# Altium footprint library EasyPay.PcbLib: 29 footprints (part 2 of 2)
Each footprint in its own frame and in the unit in brackets; x right, y up, seen from the top. Pads: shape width x height; smd on the part's side, far side on the other; paste and mask are expansions set on the pad; w line width, h text height; cw(c..) or ccw(c..) is an arc to the next point about the centre after c.
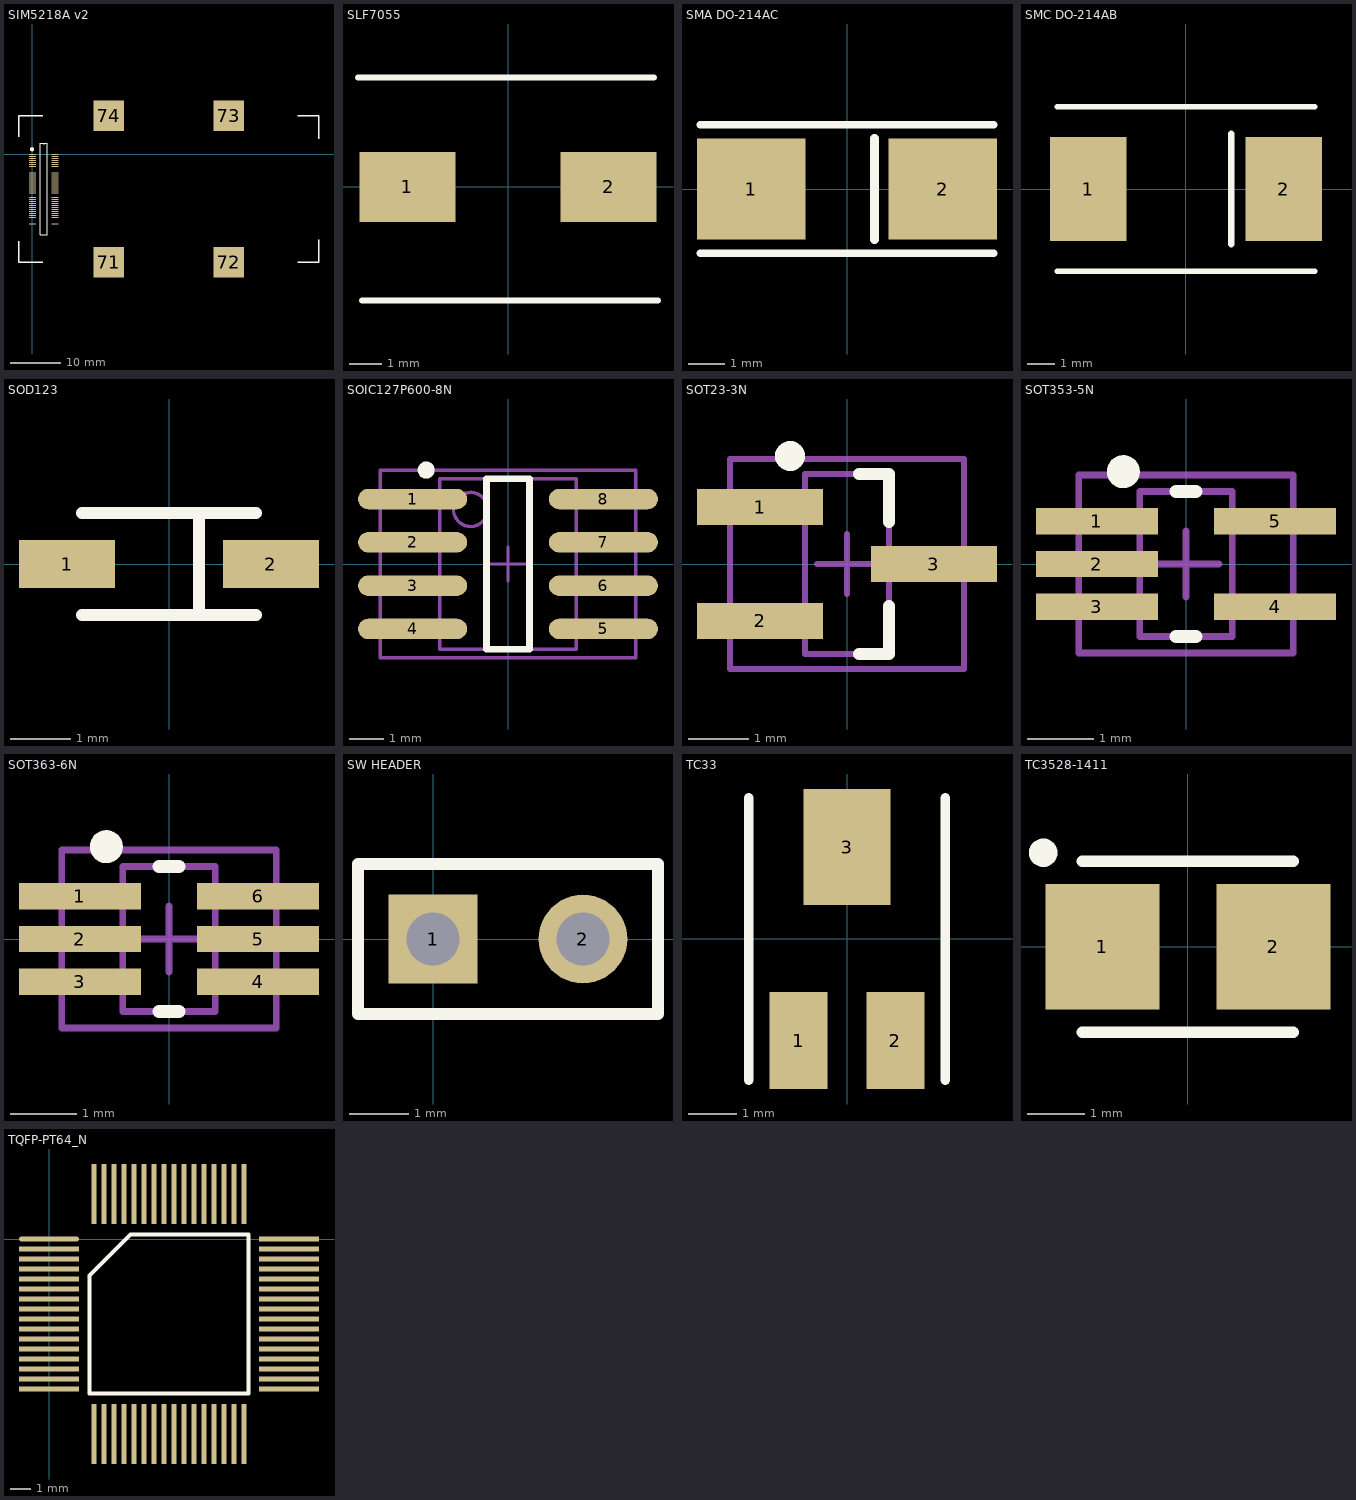
[diagram p1: the footprints below, top view; thin cyan lines are the x and y axes]

## SIM5218A v2 [mm]
pads (74):
  rect 1.45x0.17 smd: 1(0,0)
  oval 1.45x0.17 smd: 2(0,-0.4) 3(0,-0.8) 4(0,-1.2) 5(0,-1.6) 6(0,-2) 7(0,-2.4) 8(0,-2.8) 9(0,-3.2) 10(0,-3.6) 11(0,-4) 12(0,-4.4) 13(0,-4.8) 14(0,-5.2) 15(0,-5.6) 16(0,-6) 17(0,-6.4) 18(0,-6.8) 19(0,-7.2) 20(0,-7.6) 21(0,-8) 22(0,-8.4) 23(0,-8.8) 24(0,-9.2) 25(0,-9.6) 26(0,-10) 27(0,-10.4) 28(0,-10.8) 29(0,-11.2) 30(0,-11.6) 31(0,-12) 32(0,-12.4) 33(0,-12.8) 34(0,-13.2) 35(0,-13.6) 36(4.425,-13.6) 37(4.425,-13.2) 38(4.425,-12.8) 39(4.425,-12.4) 40(4.425,-12) 41(4.425,-11.6) 42(4.425,-11.2) 43(4.425,-10.8) 44(4.425,-10.4) 45(4.425,-10) 46(4.425,-9.6) 47(4.425,-9.2) 48(4.425,-8.8) 49(4.425,-8.4) 50(4.425,-8) 51(4.425,-7.6) 52(4.425,-7.2) 53(4.425,-6.8) 54(4.425,-6.4) 55(4.425,-6) 56(4.425,-5.6) 57(4.425,-5.2) 58(4.425,-4.8) 59(4.425,-4.4) 60(4.425,-4) 61(4.425,-3.6) 62(4.425,-3.2) 63(4.425,-2.8) 64(4.425,-2.4) 65(4.425,-2) 66(4.425,-1.6) 67(4.425,-1.2) 68(4.425,-0.8) 69(4.425,-0.4) 70(4.425,0)
  rect 6x6 smd: 71(14.942,-21.138) 72(38.492,-21.138) 73(38.492,7.589) 74(14.942,7.589)
Top Overlay:
  circle w0.4: c-0.073,1.016 r0.2
  lines w0.2: 1.524,-15.753 2.915,-15.753 2.915,2.154 2.312,2.154 cw(c2.213,2.154) 2.113,2.154 1.524,2.154 1.524,-15.753
  lines w0.254: -2.638,-17.049 -2.638,-21.138 2,-21.138 ; -2.638,3.5 -2.638,7.589 2,7.589 ; 52,-21.189 56.2,-21.189 56.2,-16.764 ; 52,7.62 56.2,7.62 56.2,3.068

## SLF7055 [mm]
pads (2):
  rect 3x2.2 smd: 1(-3.15,0) 2(3.15,0)
Top Overlay:
  lines w0.2: -4.699,3.429 4.572,3.429 ; -4.572,-3.556 4.699,-3.556

## SMA DO-214AC [mm]
pads (2):
  rect 3x2.79 smd: 1(-2.65,0) 2(2.65,0)
Top Overlay:
  lines w0.2: -4.064,-1.778 4.064,-1.778 ; -4.064,1.778 4.064,1.778
  lines w0.254: 0.762,-1.397 0.762,1.397

## SMC DO-214AB [mil]
pads (2):
  rect 110x150 smd: 1(-140.49,0) 2(140.49,0)
Top Overlay:
  lines w7.87: -185.04,-118.11 185.04,-118.11 ; -185.04,118.11 185.04,118.11
  lines w10: 65,-78.74 65,78.74

## SOD123 [mm] "SOD-123; 2 Leads; Body 2.7 x 1.6 mm, (LxW)"
height 1.35
pads (2):
  rect 1.6x0.8 smd: 1(-1.7,0) 2(1.7,0)
Top Overlay:
  lines w0.2: -1.45,-0.85 1.45,-0.85 ; -1.45,0.85 1.45,0.85 ; 0.5,-0.85 0.5,0.85

## SOIC127P600-8N [mm] "SOIC, 8-Leads, Body 4.9x3.9mm, Pitch 1.27mm, IPC Medium Density"
height 1.75
pads (8):
  oval 3.2x0.6 smd: 1(-2.8,1.905) 2(-2.8,0.635) 3(-2.8,-0.635) 4(-2.8,-1.905) 5(2.8,-1.905) 6(2.8,-0.635) 7(2.8,0.635) 8(2.8,1.905)
Top Overlay:
  circle w0.25: c-2.4,2.755 r0.125
  lines w0.2: -0.635,-2.5 -0.635,2.5 0.635,2.5 0.635,-2.5 -0.635,-2.5
Mechanical 13:
  circle w0.1: c-1.1,1.6 r0.5
  lines w0.1: -2,-2.5 -2,2.5 2,2.5 2,-2.5 -2,-2.5
Mechanical 15:
  lines w0.1: -0.5,0 0.5,0 ; 0,-0.5 0,0.5 ; -3.75,-2.75 -3.75,2.75 3.75,2.75 3.75,-2.75 -3.75,-2.75
3D body: height 1.75, standoff 0, extent -2,-2.5 2,2.5

## SOT23-3N [mm] "SOT23, 3-Leads, Body 2.9x1.3mm, Pitch 0.95mm, Lead Span 2.5mm, IPC Medium Density"
height 1.1
pads (3):
  rect 2.1x0.6 smd: 1(-1.45,0.95) 2(-1.45,-0.95) 3(1.45,0)
Top Overlay:
  circle w0.25: c-0.95,1.8 r0.125
  lines w0.2: 0.2,-1.5 0.7,-1.5 0.7,-0.7 ; 0.2,1.5 0.7,1.5 0.7,0.7
Mechanical 13:
  lines w0.1: -0.7,-1.5 0.7,-1.5 0.7,1.5 -0.7,1.5 -0.7,-1.5
Mechanical 15:
  lines w0.1: -0.5,0 0.5,0 ; 0,-0.5 0,0.5 ; -1.95,-1.75 1.95,-1.75 1.95,1.75 -1.95,1.75 -1.95,-1.75
3D body: height 1.1, standoff 0, extent -0.7,-1.5 0.7,1.5

## SOT353-5N [mm] "SOT353, 5-Leads, Body 2x1.3mm, Pitch 0.65mm, Lead Span 2.1mm, IPC Medium Density"
height 1.1
pads (5):
  rect 1.85x0.4 smd: 1(-1.35,0.65) 2(-1.35,0) 3(-1.35,-0.65) 4(1.35,-0.65) 5(1.35,0.65)
Top Overlay:
  circle w0.25: c-0.95,1.4 r0.125
  lines w0.2: -0.15,-1.1 0.15,-1.1 ; -0.15,1.1 0.15,1.1
Mechanical 13:
  lines w0.1: -0.7,-1.1 -0.7,1.1 0.7,1.1 0.7,-1.1 -0.7,-1.1
Mechanical 15:
  lines w0.1: -0.5,0 0.5,0 ; 0,-0.5 0,0.5 ; -1.625,-1.35 -1.625,1.35 1.625,1.35 1.625,-1.35 -1.625,-1.35
3D body: height 1.1, standoff 0, extent -0.7,-1.1 0.7,1.1

## SOT363-6N [mm] "SOT363, 6-Leads, Body 2x1.3mm, Pitch 0.65mm, Lead Span 2.1mm, IPC Medium Density"
height 1
pads (6):
  rect 1.85x0.4 smd: 1(-1.35,0.65) 2(-1.35,0) 3(-1.35,-0.65) 4(1.35,-0.65) 5(1.35,0) 6(1.35,0.65)
Top Overlay:
  circle w0.25: c-0.95,1.4 r0.125
  lines w0.2: -0.15,-1.1 0.15,-1.1 ; -0.15,1.1 0.15,1.1
Mechanical 13:
  lines w0.1: -0.7,-1.1 0.7,-1.1 0.7,1.1 -0.7,1.1 -0.7,-1.1
Mechanical 15:
  lines w0.1: -0.5,0 0.5,0 ; 0,-0.5 0,0.5 ; -1.625,-1.35 1.625,-1.35 1.625,1.35 -1.625,1.35 -1.625,-1.35
3D body: height 1, standoff 0, extent -0.7,-1.1 0.7,1.1

## SW HEADER [mm] "Connector; Header; 2 Position"
pads (2):
  rect 1.5x1.5 hole 0.9: 1(0,0)
  round 1.5 hole 0.9: 2(2.54,0)
Top Overlay:
  lines w0.2: -1.27,-1.27 -1.27,1.27 3.81,1.27 3.81,-1.27 -1.27,-1.27

## TC33 [mm]
pads (3):
  rect 1.2x2 smd: 1(-1,-2.1) 2(1,-2.1)
  rect 1.8x2.4 smd: 3(0,1.9)
Top Overlay:
  lines w0.2: -2.032,-2.921 -2.032,2.921 ; 2.032,-2.921 2.032,2.921

## TC3528-1411 [mm] "Capacitor, SM Tantalum; Body 3.5 x 2.8 mm (LxW typ)"
height 2.5
pads (2):
  rect 2x2.2 smd: 1(-1.5,0) 2(1.5,0)
Top Overlay:
  circle w0.25: c-2.538,1.651 r0.125
  lines w0.2: -1.85,-1.5 1.85,-1.5 ; -1.85,1.5 1.85,1.5

## TQFP-PT64_N [mm]
pads (64):
  oval 3x0.24 smd: 1(0,0)
  rect 3x0.24 smd: 2(0,-0.5) 3(0,-1) 4(0,-1.5) 5(0,-2) 6(0,-2.5) 7(0,-3) 8(0,-3.5) 9(0,-4) 10(0,-4.5) 11(0,-5) 12(0,-5.5) 13(0,-6) 14(0,-6.5) 15(0,-7) 16(0,-7.5) 33(12,-7.5) 34(12,-7) 35(12,-6.5) 36(12,-6) 37(12,-5.5) 38(12,-5) 39(12,-4.5) 40(12,-4) 41(12,-3.5) 42(12,-3) 43(12,-2.5) 44(12,-2) 45(12,-1.5) 46(12,-1) 47(12,-0.5) 48(12,0)
  rect 0.24x3 smd: 17(2.25,-9.75) 18(2.75,-9.75) 19(3.25,-9.75) 20(3.75,-9.75) 21(4.25,-9.75) 22(4.75,-9.75) 23(5.25,-9.75) 24(5.75,-9.75) 25(6.25,-9.75) 26(6.75,-9.75) 27(7.25,-9.75) 28(7.75,-9.75) 29(8.25,-9.75) 30(8.75,-9.75) 31(9.25,-9.75) 32(9.75,-9.75) 49(9.75,2.25) 50(9.25,2.25) 51(8.75,2.25) 52(8.25,2.25) 53(7.75,2.25) 54(7.25,2.25) 55(6.75,2.25) 56(6.25,2.25) 57(5.75,2.25) 58(5.25,2.25) 59(4.75,2.25) 60(4.25,2.25) 61(3.75,2.25) 62(3.25,2.25) 63(2.75,2.25) 64(2.25,2.25)
Top Overlay:
  lines w0.2: 2.035,-7.715 2.035,-1.82 4.07,0.215 9.965,0.215 9.965,-7.715 2.035,-7.715